# Altium footprint library WL-SMSW_1204.PcbLib: 1 footprints
Each footprint in its own frame and in the unit in brackets; x right, y up, seen from the top. Pads: shape width x height; smd on the part's side, far side on the other; paste and mask are expansions set on the pad; w line width, h text height; cw(c..) or ccw(c..) is an arc to the next point about the centre after c.
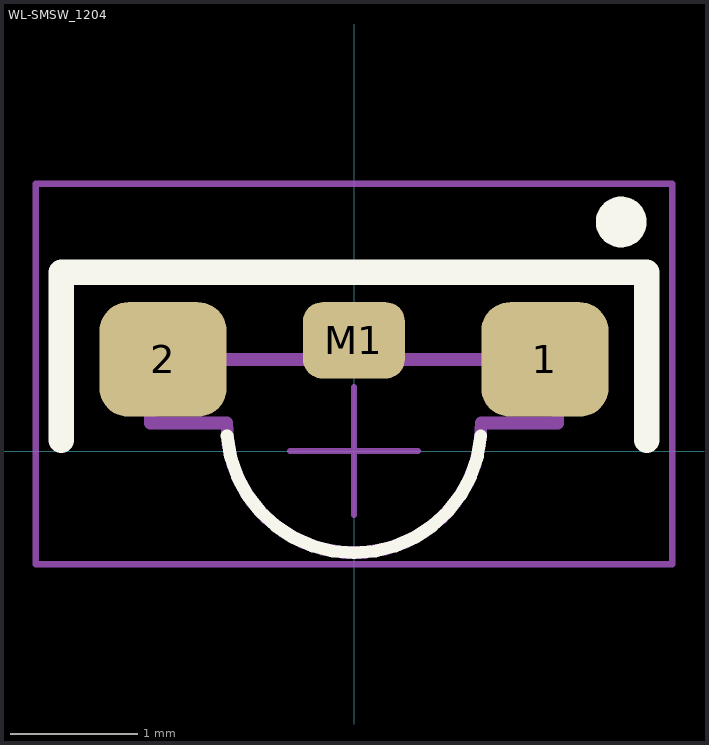
[diagram p0: the footprint, top view; thin cyan lines are the x and y axes]

## WL-SMSW_1204 [mm] "SMD Mono-color Side view Waterclear, body 3.2x1.5"
height 1.2
pads (3):
  rrect50% 1x0.9 smd mask+0.05: 1(1.5,0.72) 2(-1.5,0.72)
  rrect50% 0.8x0.6 smd mask+0.05: M1(0,0.87)
Top Overlay:
  circle w0.2: c2.1,1.8 r0.1
  lines w0.1: -0.997,0.12 ccw(c0,0.2) 0.997,0.12
  lines w0.2: -2.3,0.085 -2.3,1.406 0,1.406 2.3,1.406 2.3,0.085
Top Assembly:
  circle w0.1: c1.8,1 r0.1
  lines w0.1: -1,0.22 -1.6,0.22 -1.6,0.72 1.6,0.72 1.6,0.22 1,0.22 cw(c0,0.2) -1,0.22
  text "'.Designator'" at -0.873,0.22 h0.15
Top Courtyard:
  lines w0.05: -0.5,0 0.5,0 ; 0,-0.5 0,0.5 ; -2.5,-0.889 -2.5,2.1 2.5,2.1 2.5,-0.889 -2.5,-0.889
3D body "WL-SMSW_124_round.stp": height 1.03, standoff 0.03, extent -1.6,-0.765 1.6,0.72